# EAGLE library part BYT12864FLCD (library RobThePyro)
ST7920 / BYT12864F Based GFX LCD
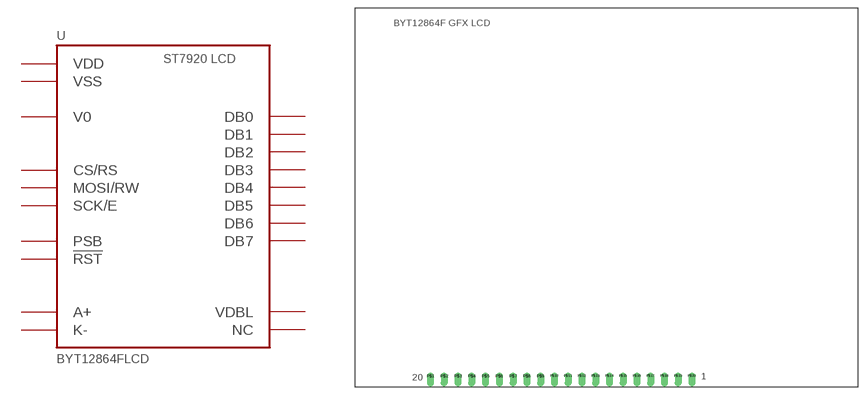
[diagram p12: symbol with the pads of BYT12864F; footprint BYT12864F]

Designator prefix -

## BYT12864FLCD  [BYT12864F]
P$1  K-
P$2  A+
P$3  VDBL
P$4  !RST
P$5  NC
P$6  PSB
P$7  DB7
P$8  DB6
P$9  DB5
P$10  DB4
P$11  DB3
P$12  DB2
P$13  DB1
P$14  DB0
P$15  SCK/E
P$16  MOSI/RW
P$17  CS/RS
P$18  V0
P$19  VDD
P$20  VSS

## Footprint BYT12864F (pad centres in mm)
drill 0.8 offset: P$1 14,2; P$2 16.54,2; P$3 19.08,2; P$4 21.62,2; P$5 24.16,2; P$6 26.7,2; P$7 29.24,2; P$8 31.78,2; P$9 34.32,2; P$10 36.86,2; P$11 39.4,2; P$12 41.94,2; P$13 44.48,2; P$14 47.02,2; P$15 49.56,2; P$16 52.1,2; P$17 54.64,2; P$18 57.18,2; P$19 59.72,2; P$20 62.26,2